# Altium schematic symbol library Miscellaneous.SchLib: 28 symbols
Pins are listed as number, name and electrical type; pins without a type are passive.

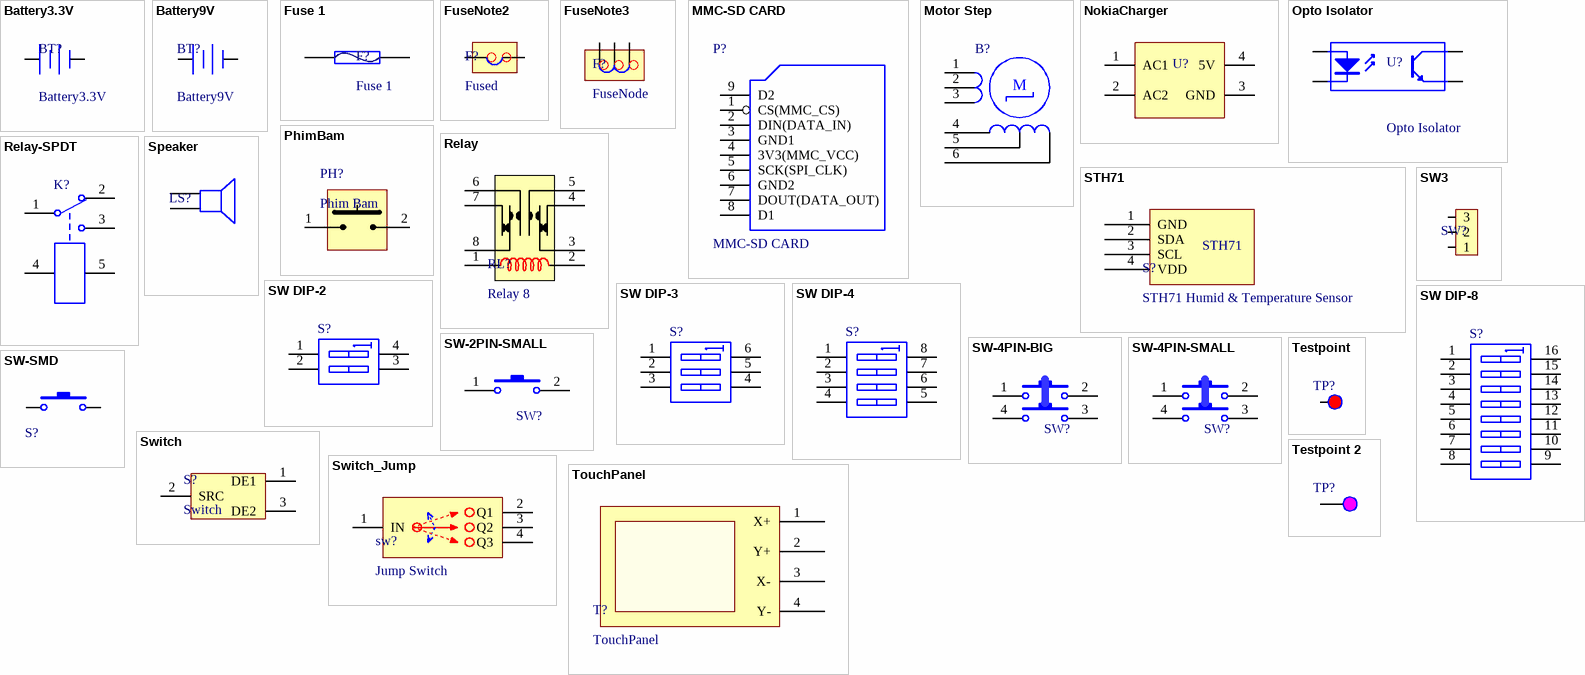
[diagram p0: symbols Battery3.3V to TouchPanel]

## Battery3.3V
designator BT?
Multicell Battery; Published: 24-Mar-1999; LatestRevisionDate: 17-Jul-2002; LatestRevisionNote: Re-released for DXP Platform.; PackageReference: BAT-2; Publisher: Altium Limited
footprint CR2032 Holder
pins: 1 +, 2 -

## Battery9V
designator BT?
Multicell Battery; Published: 24-Mar-1999; LatestRevisionDate: 17-Jul-2002; LatestRevisionNote: Re-released for DXP Platform.; PackageReference: BAT-2; Publisher: Altium Limited
footprint HDR1X2 (Connector; Header; 2 Position)
pins: 1 +, 2 -

## Fuse 1
designator F?
Fuse; Published: 8-Jun-2000; LatestRevisionDate: 17-Jul-2002; LatestRevisionNote: Re-released for DXP Platform.; PackageReference: PIN-W2/E2.8; Publisher: Altium Limited
footprint Fuse
pins: 1, 2

## FuseNote2
designator F?, comment Fused
footprint HDR1X2H (Connector; Header; 2 Position; Right Angle)
pins: 1, 2

## FuseNote3
designator F?, comment FuseNode
footprint HDR1X3H (Connector; Header; 3 Position; Right Angle)
pins: 1, 2, 3

## MMC-SD CARD
designator P?
Header, 6-Pin; LatestRevisionDate: 17-Jul-2002; LatestRevisionNote: Re-released for DXP Platform.; Publisher: Altium Limited
footprint MMC
pins: 1 CS(MMC_CS), 2 DIN(DATA_IN), 3 GND1, 4 3V3(MMC_VCC), 5 SCK(SPI_CLK), 6 GND2, 7 DOUT(DATA_OUT), 8 D1, 9 D2, 10 hidden to GND, 11 hidden to GND, 12 hidden to GND, 13 hidden to GND, 14 hidden to GND, 15 hidden to GND, 16 hidden to GND, 17 hidden to GND
2 alternate drawings of the same symbol

## Motor Step
designator B?
Motor Stepper; Published: 24-Mar-1999; LatestRevisionDate: 17-Jul-2002; LatestRevisionNote: Re-released for DXP Platform.; PackageReference: DIP-6; Publisher: Altium Limited; Code_JEDEC: MO-001-AM
footprint HDR1X6 - L (Connector; Header; 6 Position)
footprint HDR1X6 - L (Connector; Header; 6 Position)
pins: 1 1A, 2, 3, 4, 5, 6
text: M

## NokiaCharger
designator U?, comment 6V Nokia Charger  (value not drawn)
Creator: Bien Nguyen
footprint NokiaCharger
pins: 1 AC1, 2 AC2, 3 GND, 4 5V

## Opto Isolator
designator U?
4-Pin Phototransistor Optocoupler; Published: 24-Mar-1999; LatestRevisionDate: 04-Mar-2005; LatestRevisionNote: Sch pins 3 & 4 Swapped.; DatasheetDocument: Nov-2003; PackageReference: DIP-4; Publisher: Altium Limited
footprint PhotoCoupler (Opto quang)
pins: 1 A "Anode", 2 K "Cathode", 3 E "Emitter", 4 C "Collector"

## PhimBam
designator PH?, comment Phim Bam
pins: 1, 2

## Relay
designator RL?, comment Relay 8
footprint RELAY
pins: 1, 2, 3, 4, 5, 6, 7, 8

## Relay-SPDT
designator K?
Single-Pole Dual-Throw Relay; Published: 24-Mar-1999; LatestRevisionDate: 17-Jul-2002; LatestRevisionNote: Re-released for DXP Platform.; PackageReference: MODULE5B; Publisher: Altium Limited
simulation model SPDTRELAY (Spice Subcircuit)
footprint RELAY5PIN-10A
pins: 1, 2, 3, 4, 5

## Speaker
designator LS?
Loudspeaker; Published: 24-Mar-1999; LatestRevisionDate: 17-Jul-2002; LatestRevisionNote: Re-released for DXP Platform.; PackageReference: PIN2; Publisher: Altium Limited
footprint SPEAKER
pins: 1, 2

## STH71
designator S?, comment STH71 Humid & Temperature Sensor
footprint HDR1X4 (Connector; Header; 4 Position)
pins: 1 GND, 2 SDA, 3 SCL, 4 VDD

## SW3
designator SW?  (value not drawn)
pins: 1, 2, 3

## SW DIP-2
designator S?
DIP Switch, 2 Position, SPST; Published: 24-Mar-1999; LatestRevisionDate: 17-Jul-2002; LatestRevisionNote: Re-released for DXP Platform.; PackageReference: DIP-4; Publisher: Altium Limited
footprint DIPSWITCH2
simulation model dpsw2 (Spice Subcircuit)
pins: 1 A1, 2 A2, 3 B2, 4 B1

## SW DIP-3
designator S?
DIP Switch, 3 Position, SPST; Published: 24-Mar-1999; LatestRevisionDate: 17-Jul-2002; LatestRevisionNote: Re-released for DXP Platform.; PackageReference: DIP-6; Publisher: Altium Limited; Code_JEDEC: MO-001-AM
footprint DIPSWITCH3
simulation model dpsw3 (Spice Subcircuit)
pins: 1 A1, 2 A2, 3 A3, 4 B3, 5 B2, 6 B1

## SW DIP-4
designator S?
DIP Switch, 4 Position, SPST; Published: 24-Mar-1999; LatestRevisionDate: 29-May-2009; LatestRevisionNote: IPC-7351 Footprint Added.; PackageVersion: Dec-2002; PackageReference: SO8; Publisher: Altium Limited; PackageDescription: 8-Pin Small Outline Integrated Circuit 1.27 mm Pitch; Code_JEDEC: MS-012-AA; Code_IPC: SOIC127P600-8
simulation model dpsw4 (Spice Subcircuit)
footprint DIPSWITCH4
pins: 1 A1, 2 A2, 3 A3, 4 A4, 5 B4, 6 B3, 7 B2, 8 B1

## SW DIP-8
designator S?
DIP Switch, 8 Position, SPST; Published: 24-Mar-1999; LatestRevisionDate: 17-Jul-2002; LatestRevisionNote: Re-released for DXP Platform.; PackageReference: DIP_SW_8WAY_SMD; Publisher: Altium Limited; PackageDescription: DIP Switch; 16 Leads
footprint DIPSWITCH8
simulation model dpsw8 (Spice Subcircuit)
pins: 1 A1, 2 A2, 3 A3, 4 A4, 5 A5, 6 A6, 7 A7, 8 A8, 9 B8, 10 B7, 11 B6, 12 B5, 13 B4, 14 B3, 15 B2, 16 B1

## SW-2PIN-SMALL
designator SW?, comment SW-2P-S  (value not drawn)
Switch Small 2 Pin; Published: 24-Mar-1999; LatestRevisionDate: 17-Jul-2002; LatestRevisionNote: Re-released for DXP Platform.; PackageReference: SPST-2; Publisher: Altium Limited
footprint SW-2P-S
pins: 1, 2

## SW-4PIN-BIG
designator SW?, comment SW-4P-B  (value not drawn)
Switch Big 4 Pin; Published: 24-Mar-1999; LatestRevisionDate: 17-Jul-2002; LatestRevisionNote: Re-released for DXP Platform.; PackageReference: SPST-2; Publisher: Altium Limited
footprint SW-4P-B (Nut bam lon)
pins: 1, 2, 3, 4

## SW-4PIN-SMALL
designator SW?, comment SW-4P-S  (value not drawn)
Switch Small 4 Pin; Published: 24-Mar-1999; LatestRevisionDate: 17-Jul-2002; LatestRevisionNote: Re-released for DXP Platform.; PackageReference: SPST-2; Publisher: Altium Limited
footprint SW-4P-S
pins: 1, 2, 3, 4

## SW-SMD
designator S?  (value not drawn)
Switch; Published: 24-Mar-1999; LatestRevisionDate: 17-Jul-2002; LatestRevisionNote: Re-released for DXP Platform.; PackageReference: SPST-2; Publisher: Altium Limited
footprint SW-SMD (Switch SMD type)
pins: 1, 2

## Switch
designator S?
footprint Switch
pins: 1 DE1, 2 SRC, 3 DE2, 4 hidden, 5 hidden

## Switch_Jump
designator sw?, comment Jump Switch
footprint SW-Jump
pins: 1 IN, 2 Q1, 3 Q2, 4 Q3

## Testpoint
designator TP?  (value not drawn)
footprint TP (TestPoint)
pins: 1

## Testpoint 2
designator TP?  (value not drawn)
footprint TP - 2 (TestPoint)
pins: 1

## TouchPanel
designator T?
4 wires touch panel; Creator: Nguyen Ba Bien; Date Created: 14-04-2010
footprint HDR1X4H (Connector; Header; 4 Position; Right Angle)
pins: 1 X+, 2 Y+, 3 X-, 4 Y-